# Altium integrated library glenair.IntLib: 1 symbol
Pins are listed as number, name and electrical type; pins without a type are passive.

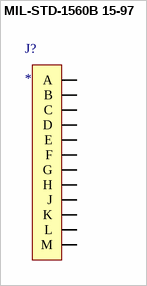
[diagram p0: symbol MIL-STD-1560B 15-97]

## MIL-STD-1560B 15-97
designator J?
footprint MIL-STD-1560B 15-97 (Insert arrangement for MIL-STD-1560B 15-97)
pins: A, B, C, D, E, F, G, H, J, K, L, M